# EAGLE library part DRV8880 (library Steppers)
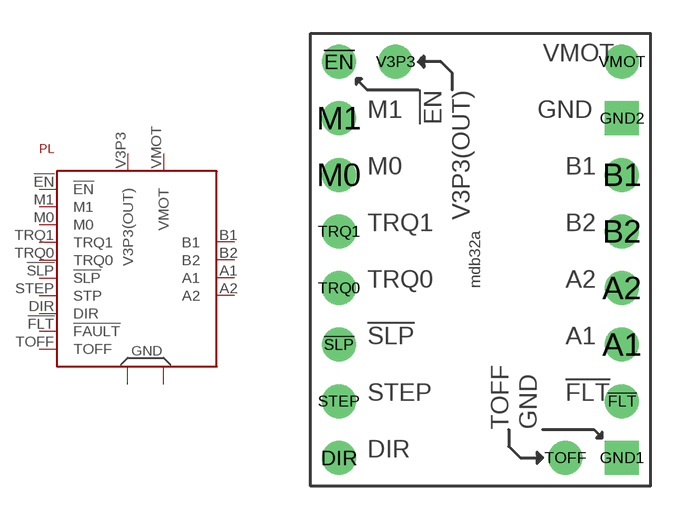
[diagram p3: symbol with the pads of MD32A; footprint MD32A]

Designator prefix PL

## DRV8880  [MD32A]
!EN  !EN
!FLT  !FAULT
!SLP  !SLP
A1  A1
A2  A2
B1  B1
B2  B2
DIR  DIR
GND1  GND1
GND2  GND2
M0  M0
M1  M1
STEP  STP
TOFF  TOFF
TRQ0  TRQ0
TRQ1  TRQ1
V3P3  V3P3(OUT)
VMOT  VMOT

## Footprint MD32A (pad centres in mm)
drill 1.016: !EN -6.35,8.89; !FLT 6.35,-6.35; !SLP -6.35,-3.81; A1 6.35,-3.81; A2 6.35,-1.27; B1 6.35,3.81; B2 6.35,1.27; DIR -6.35,-8.89; M0 -6.35,3.81; M1 -6.35,6.35; STEP -6.35,-6.35; TOFF 3.81,-8.89; TRQ0 -6.35,-1.27; TRQ1 -6.35,1.27; V3P3 -3.81,8.89; VMOT 6.35,8.89
drill 1.016 square: GND1 6.35,-8.89; GND2 6.35,6.35